# Altium footprint library C1210_POL-STD.PcbLib: 1 footprints
Each footprint in its own frame and in the unit in brackets; x right, y up, seen from the top. Pads: shape width x height; smd on the part's side, far side on the other; paste and mask are expansions set on the pad; w line width, h text height; cw(c..) or ccw(c..) is an arc to the next point about the centre after c.
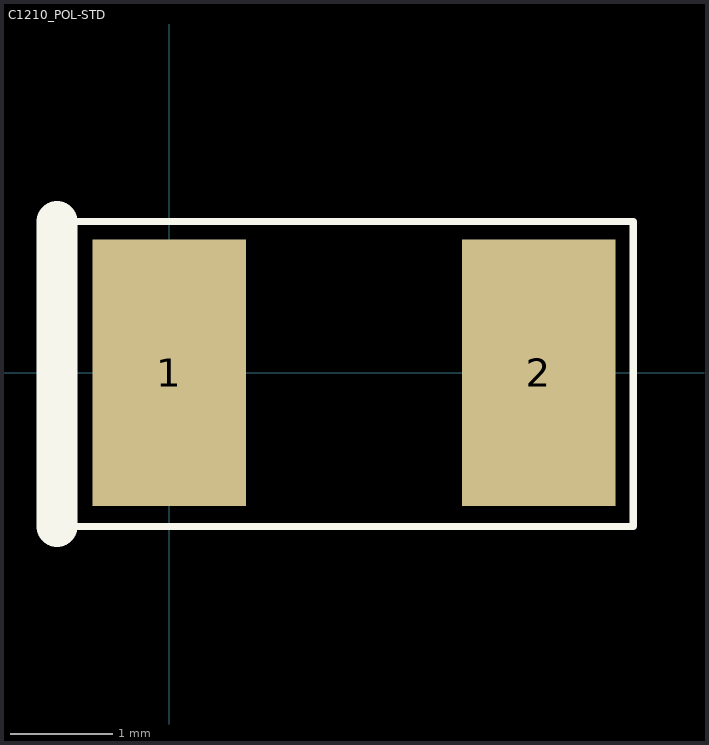
[diagram p0: the footprint, top view; thin cyan lines are the x and y axes]

## C1210_POL-STD [mm]
pads (2):
  rect 1.5x2.6 smd: 1(0,0) 2(3.6,0)
Top Overlay:
  lines w0.07: -1.092,-1.499 4.521,-1.499 4.521,1.473 -1.092,1.473
  lines w0.4: -1.092,-1.499 -1.092,1.473
3D body: height 2.09, standoff -0.01, extent -0.04,-1.419 3.65,1.401